# EAGLE library part LSF0204PW (library FaBo-LevelTranslator)
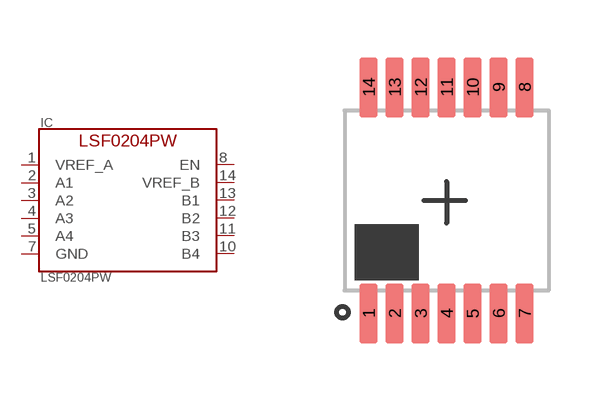
[diagram p11: symbol with the pads of TSSOP-14; footprint TSSOP-14]

Designator prefix IC

## LSF0204PW  [TSSOP-14]
1  VREF_A
2  A1
3  A2
4  A3
5  A4
7  GND
8  EN
10  B4
11  B3
12  B2
13  B1
14  VREF_B

## Footprint TSSOP-14 (pad centres in mm)
smd 0.45 x 1.5: 1 -1.95,-2.825; 2 -1.3,-2.825; 3 -0.65,-2.825; 4 0,-2.825; 5 0.65,-2.825; 6 1.3,-2.825; 7 1.95,-2.825; 8 1.95,2.825; 9 1.3,2.825; 10 0.65,2.825; 11 0,2.825; 12 -0.65,2.825; 13 -1.3,2.825; 14 -1.95,2.825